# Altium footprint library VAR-DC-JACK.PcbLib: 2 footprints
Each footprint in its own frame and in the unit in brackets; x right, y up, seen from the top. Pads: shape width x height; smd on the part's side, far side on the other; paste and mask are expansions set on the pad; w line width, h text height; cw(c..) or ccw(c..) is an arc to the next point about the centre after c.
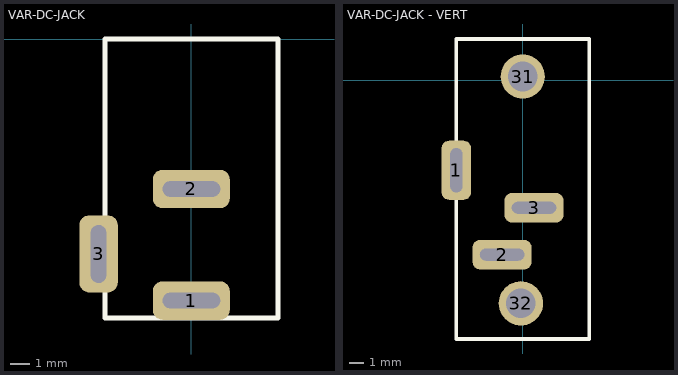
[diagram p0: the footprints below, top view; thin cyan lines are the x and y axes]

## VAR-DC-JACK [mm] "VAR-DC-JACK"
pads (3):
  rrect50% 4x2 hole 0.8 slot 3 at 0 deg: 1(0,-13.6) 2(0,-7.8)
  rrect50% 2x4 hole 0.8 slot 3 at 90 deg: 3(-4.826,-11.176)
Top Overlay:
  lines w0.254: -4.5,-14.5 4.5,-14.5 4.5,0 -4.5,0 -4.5,-14.5
3D body "DC-JACK.step": height 11, standoff -4, extent -4.953,-14.339 4.597,-0.139

## VAR-DC-JACK - VERT [mm] "VAR-DC-JACK-VERT"
pads (5):
  rrect50% 2x4 hole 0.8 slot 3 at 90 deg: 1(-4.5,-6.096)
  rrect50% 4x2 hole 0.8 slot 3 at 0 deg: 2(-1.397,-11.811) 3(0.762,-8.636)
  round 3 hole 2: 31(0,0.254) 32(-0.127,-15.113)
Top Overlay:
  lines w0.254: -4.5,-17.526 4.5,-17.526 4.5,2.794 -4.5,2.794 -4.5,-17.526
3D body "DC-JACK-VERT.step": height 11.6, standoff -4.07, extent -4.555,-17.26 4.445,2.54